# Altium footprint library SamacSys.PcbLib: 27 footprints (part 2 of 2)
Each footprint in its own frame and in the unit in brackets; x right, y up, seen from the top. Pads: shape width x height; smd on the part's side, far side on the other; paste and mask are expansions set on the pad; w line width, h text height; cw(c..) or ccw(c..) is an arc to the next point about the centre after c.
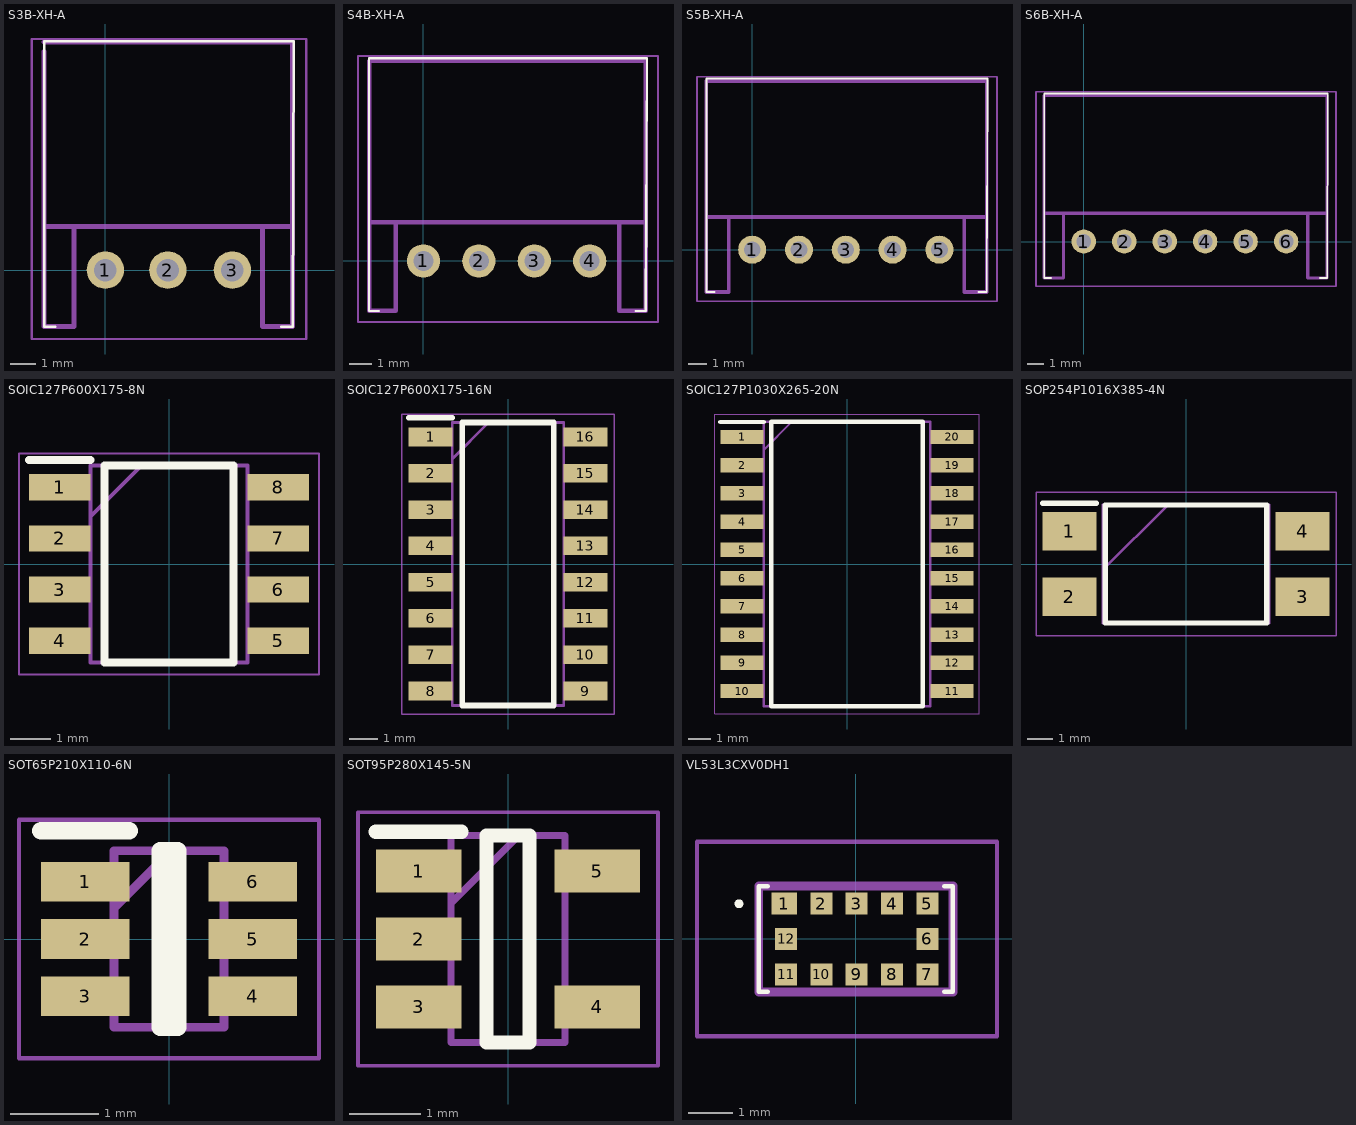
[diagram p1: the footprints below, top view; thin cyan lines are the x and y axes]

## S3B-XH-A [mm]
pads (3):
  round 1.5 hole 0.9: 1(0,0) 2(2.5,0) 3(5.08,0)
Top Overlay:
  lines w0.1: -2,-2.257 -2.45,-2.257 -2.45,9.144 7.542,9.144 7.49,-2.257 7.04,-2.257
Mechanical 13:
  lines w0.2: -2.45,8.743 -2.45,1.743 ; -2.45,9.124 7.442,9.119 ; 7.49,9.017 7.49,1.743 ; -2.45,1.743 -2.45,-2.257 -1.25,-2.257 -1.25,1.743 -2.45,1.743 ; -2.45,1.743 6.29,1.743 ; 6.29,1.743 6.29,-2.257 7.49,-2.257 7.49,1.743 ; 6.29,1.743 7.49,1.743
Mechanical 15:
  lines w0.1: -2.95,-2.757 -2.95,9.243 8.04,9.243 8.04,-2.757 -2.95,-2.757
3D body "S3B-XH-A.STEP": height 6.15, standoff -3.4, extent -2.436,-2.27 7.465,9.23

## S4B-XH-A [mm]
pads (4):
  round 1.5 hole 0.9: 1(0,0) 2(2.5,0) 3(5,0) 4(7.5,0)
Top Overlay:
  lines w0.1: -2,-2.257 -2.45,-2.257 -2.45,9.144 10.082,9.144 10.03,-2.257 9.58,-2.257
Mechanical 13:
  lines w0.2: -2.45,1.743 -2.45,-2.257 -1.25,-2.257 -1.25,1.743 -2.45,1.743 ; -2.45,1.743 -2.45,9.017 10.03,9.017 10.03,1.743 ; -2.45,1.743 8.83,1.743 ; 8.83,1.743 8.83,-2.257 10.03,-2.257 10.03,1.743 ; 8.83,1.743 10.03,1.743
Mechanical 15:
  lines w0.1: -2.95,-2.757 -2.95,9.243 10.58,9.243 10.58,-2.757 -2.95,-2.757
3D body "S4B-XH-A.STEP": height 6.15, standoff -3.4, extent -2.441,-2.321 9.959,9.179

## S5B-XH-A [mm]
pads (5):
  round 1.5 hole 0.9: 1(0,0) 2(2.5,0) 3(5,0) 4(7.5,0) 5(10,0)
Top Overlay:
  lines w0.1: -2,-2.257 -2.45,-2.257 -2.45,9.144 12.582,9.144 12.53,-2.257 12.08,-2.257
Mechanical 13:
  lines w0.2: -2.45,1.743 -2.45,-2.257 -1.25,-2.257 -1.25,1.743 -2.45,1.743 ; -2.45,1.743 -2.45,9.017 12.53,9.017 12.53,1.743 ; -2.45,1.743 11.33,1.743 ; 11.33,1.743 11.33,-2.257 12.53,-2.257 12.53,1.743 ; 11.33,1.743 12.53,1.743
Mechanical 15:
  lines w0.1: -2.95,-2.757 -2.95,9.243 13.08,9.243 13.08,-2.757 -2.95,-2.757
3D body "S5B-XH-A.STEP": height 6.15, standoff -3.4, extent -2.446,-2.296 12.454,9.204

## S6B-XH-A [mm]
pads (6):
  round 1.5 hole 0.9: 1(0,0) 2(2.5,0) 3(5,0) 4(7.5,0) 5(10,0) 6(12.5,0)
Top Overlay:
  lines w0.1: -2,-2.257 -2.45,-2.257 -2.45,9.144 15.082,9.144 15.03,-2.257 14.58,-2.257
Mechanical 13:
  lines w0.2: -2.45,1.743 13.83,1.743 ; -2.45,1.743 -2.45,9.017 15.03,9.017 15.03,1.743 ; -2.45,1.743 -1.25,1.743 -1.25,-2.257 -2.45,-2.257 -2.45,1.743 ; 13.83,1.743 15.03,1.743 ; 13.83,1.743 13.83,-2.257 15.03,-2.257 15.03,1.743
Mechanical 15:
  lines w0.1: -2.95,-2.757 15.58,-2.757 15.58,9.243 -2.95,9.243 -2.95,-2.757
3D body "S6B-XH-A.STEP": height 6.15, standoff -3.4, extent -2.452,-2.296 14.948,9.204

## SOIC127P600X175-8N [mm]
pads (8):
  rect 1.525x0.65 smd: 1(-2.712,1.905) 2(-2.712,0.635) 3(-2.712,-0.635) 4(-2.712,-1.905) 5(2.712,-1.905) 6(2.712,-0.635) 7(2.712,0.635) 8(2.712,1.905)
Top Overlay:
  lines w0.2: -3.475,2.58 -1.95,2.58 ; -1.6,-2.45 -1.6,2.45 1.6,2.45 1.6,-2.45 -1.6,-2.45
Mechanical 13:
  lines w0.1: -1.95,1.18 -0.68,2.45 ; -1.95,-2.45 -1.95,2.45 1.95,2.45 1.95,-2.45 -1.95,-2.45
Mechanical 15:
  lines w0.05: -3.725,-2.75 -3.725,2.75 3.725,2.75 3.725,-2.75 -3.725,-2.75
3D body "NE555DG4.stp": height 1.75, standoff 0, extent -3,-2.45 3,2.45

## SOIC127P600X175-16N [mm]
pads (16):
  rect 1.525x0.65 smd: 1(-2.712,4.445) 2(-2.712,3.175) 3(-2.712,1.905) 4(-2.712,0.635) 5(-2.712,-0.635) 6(-2.712,-1.905) 7(-2.712,-3.175) 8(-2.712,-4.445) 9(2.712,-4.445) 10(2.712,-3.175) 11(2.712,-1.905) 12(2.712,-0.635) 13(2.712,0.635) 14(2.712,1.905) 15(2.712,3.175) 16(2.712,4.445)
Top Overlay:
  lines w0.2: -3.475,5.12 -1.95,5.12 ; -1.6,-4.95 -1.6,4.95 1.6,4.95 1.6,-4.95 -1.6,-4.95
Mechanical 13:
  lines w0.1: -1.95,3.68 -0.68,4.95 ; -1.95,-4.95 -1.95,4.95 1.95,4.95 1.95,-4.95 -1.95,-4.95
Mechanical 15:
  lines w0.05: -3.725,-5.25 -3.725,5.25 3.725,5.25 3.725,-5.25 -3.725,-5.25
3D body "CD4029BM96.stp": height 1.75, standoff 0, extent -3,-4.95 3,4.95

## SOIC127P1030X265-20N [mm]
pads (20):
  rect 1.95x0.65 smd: 1(-4.725,5.715) 2(-4.725,4.445) 3(-4.725,3.175) 4(-4.725,1.905) 5(-4.725,0.635) 6(-4.725,-0.635) 7(-4.725,-1.905) 8(-4.725,-3.175) 9(-4.725,-4.445) 10(-4.725,-5.715) 11(4.725,-5.715) 12(4.725,-4.445) 13(4.725,-3.175) 14(4.725,-1.905) 15(4.725,-0.635) 16(4.725,0.635) 17(4.725,1.905) 18(4.725,3.175) 19(4.725,4.445) 20(4.725,5.715)
Top Overlay:
  lines w0.2: -5.7,6.39 -3.75,6.39 ; -3.4,-6.4 -3.4,6.4 3.4,6.4 3.4,-6.4 -3.4,-6.4
Mechanical 13:
  lines w0.1: -3.75,5.13 -2.48,6.4 ; -3.75,-6.4 -3.75,6.4 3.75,6.4 3.75,-6.4 -3.75,-6.4
Mechanical 15:
  lines w0.05: -5.95,-6.75 -5.95,6.75 5.95,6.75 5.95,-6.75 -5.95,-6.75
3D body "SN74LS241DW.stp": height 2.65, standoff 0, extent -5.15,-6.4 5.15,6.4

## SOP254P1016X385-4N [mm]
pads (4):
  rect 2.1x1.5 smd: 1(-4.55,1.27) 2(-4.55,-1.27) 3(4.55,-1.27) 4(4.55,1.27)
Top Overlay:
  lines w0.2: -5.6,2.37 -3.5,2.37 ; -3.15,-2.3 -3.15,2.3 3.15,2.3 3.15,-2.3 -3.15,-2.3
Mechanical 13:
  lines w0.1: -3.25,-0.24 -0.71,2.3 ; -3.25,-2.3 -3.25,2.3 3.25,2.3 3.25,-2.3 -3.25,-2.3
Mechanical 15:
  lines w0.05: -5.85,-2.8 -5.85,2.8 5.85,2.8 5.85,-2.8 -5.85,-2.8
3D body "SO4.stp": height 2.21, standoff 0.01, extent -3.53,-1.397 3.479,1.443

## SOT65P210X110-6N [mm]
pads (6):
  rect 1x0.45 smd: 1(-0.95,0.65) 2(-0.95,0) 3(-0.95,-0.65) 4(0.95,-0.65) 5(0.95,0) 6(0.95,0.65)
Top Overlay:
  lines w0.2: -1.45,1.225 -0.45,1.225 ; -0.1,-1 -0.1,1 0.1,1 0.1,-1 -0.1,-1
Mechanical 13:
  lines w0.1: -0.625,0.35 0.025,1 ; -0.625,-1 -0.625,1 0.625,1 0.625,-1 -0.625,-1
Mechanical 15:
  lines w0.05: -1.7,-1.35 -1.7,1.35 1.7,1.35 1.7,-1.35 -1.7,-1.35
3D body "BCM857BS.stp": height 0.95, standoff 0, extent -1.052,-1.061 1.048,1.089

## SOT95P280X145-5N [mm]
pads (5):
  rect 1.2x0.6 smd: 1(-1.25,0.95) 2(-1.25,0) 3(-1.25,-0.95) 4(1.25,-0.95) 5(1.25,0.95)
Top Overlay:
  lines w0.2: -1.85,1.5 -0.65,1.5 ; -0.3,-1.45 -0.3,1.45 0.3,1.45 0.3,-1.45 -0.3,-1.45
Mechanical 13:
  lines w0.1: -0.8,0.5 0.15,1.45 ; -0.8,-1.45 -0.8,1.45 0.8,1.45 0.8,-1.45 -0.8,-1.45
Mechanical 15:
  lines w0.05: -2.1,-1.775 -2.1,1.775 2.1,1.775 2.1,-1.775 -2.1,-1.775
3D body "SN74AHC1G08DBVR.stp": height 1.45, standoff 0, extent -1.4,-1.45 1.4,1.45

## VL53L3CXV0DH1 [mm]
pads (12):
  rect 0.58x0.5 smd: 1(-1.62,0.8)
  rect 0.5x0.5 smd: 2(-0.78,0.8) 3(0.02,0.8) 4(0.82,0.8) 5(1.62,0.8) 6(1.62,0) 7(1.62,-0.8) 8(0.82,-0.8) 9(0.02,-0.8) 10(-0.78,-0.8) 11(-1.58,-0.8) 12(-1.58,0)
Top Overlay:
  lines w0.1: -2,-1.2 -2.2,-1.2 -2.2,1.2 -2,1.2 ; 2,-1.2 2.2,-1.2 2.2,1.2 2,1.2 ; -2.7,0.8 ccw(c-2.65,0.8) -2.6,0.8 ccw(c-2.65,0.8) -2.7,0.8
Mechanical 13:
  lines w0.2: -2.2,-1.2 -2.2,1.2 2.2,1.2 2.2,-1.2 -2.2,-1.2
Mechanical 15:
  lines w0.1: -3.6,-2.2 -3.6,2.2 3.2,2.2 3.2,-2.2 -3.6,-2.2
3D body "VL53L3CXV0DH_1.stp": height 1.05, standoff 0, extent -2.2,-1.2 2.2,1.2